# Altium integrated library Texas Instruments Power Management PWM Controller.IntLib: 1227 symbols (part 39 of 49)
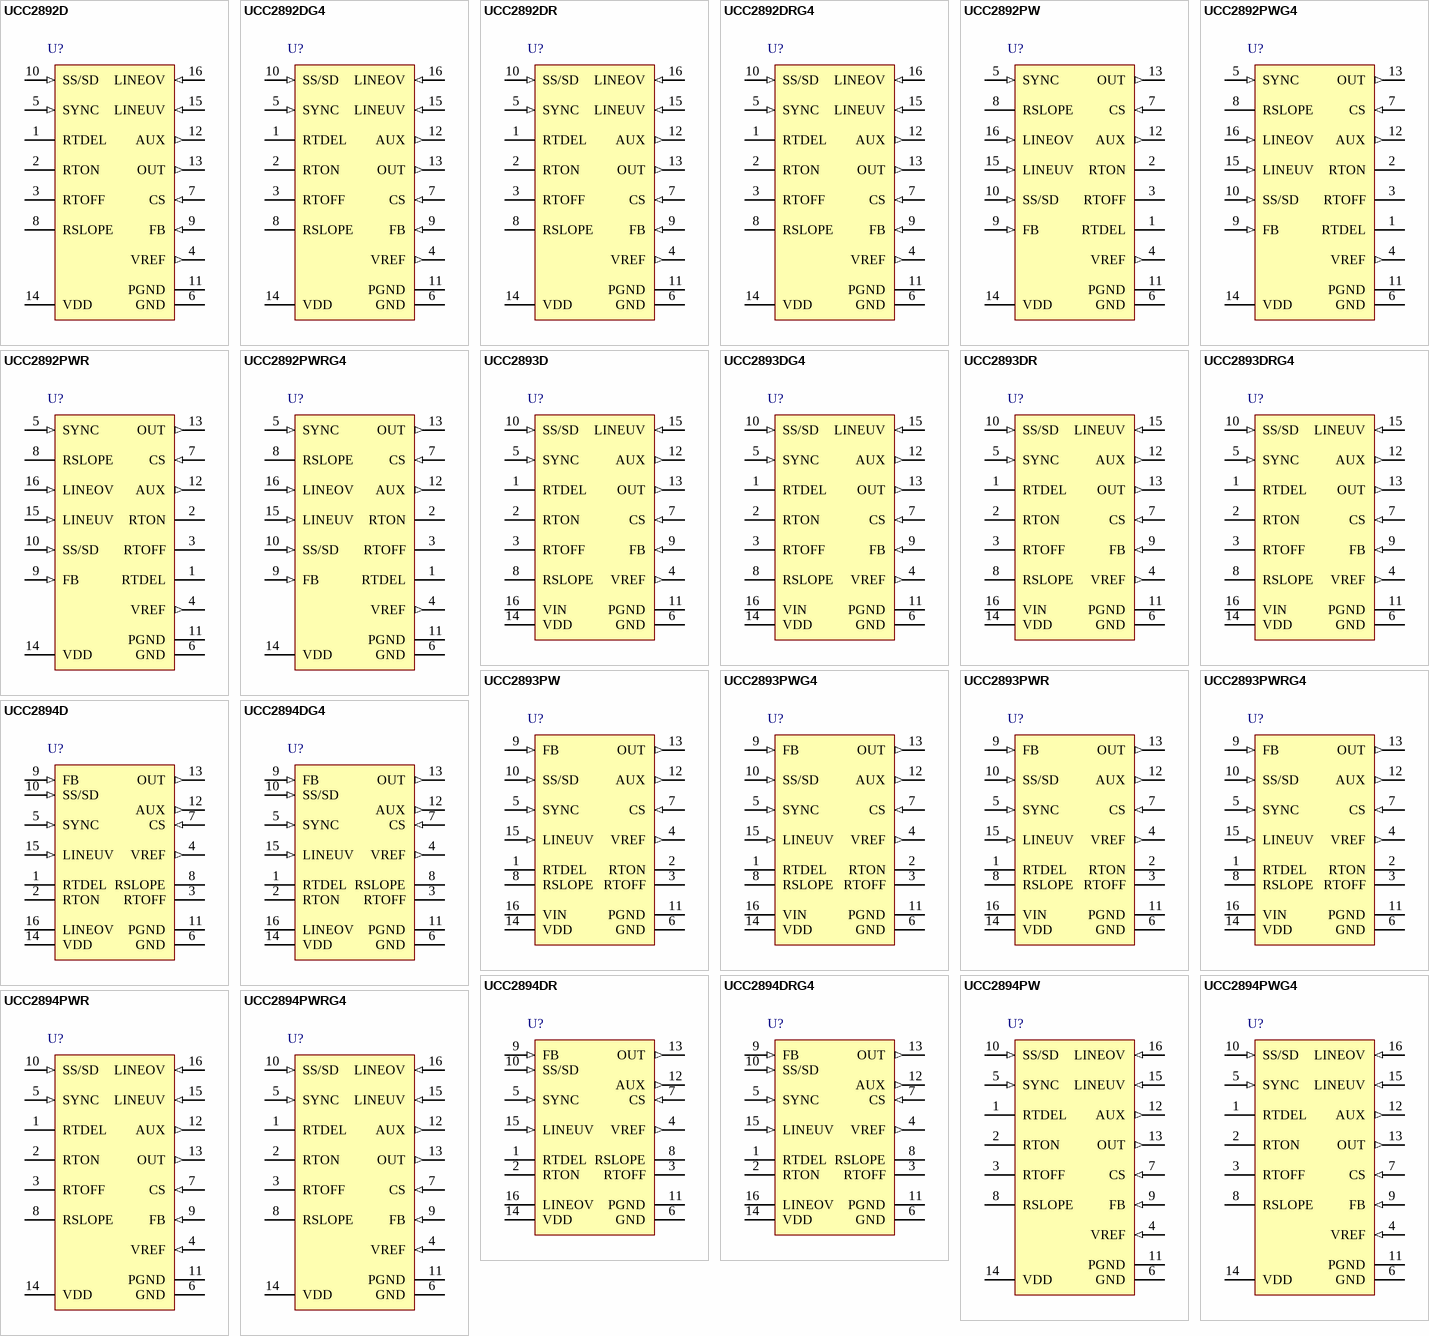
[diagram p81: symbols UCC2892D to UCC2894PWRG4]

## UCC2893PWRG4
designator U?
Active Clamp PWM Controller with Current Control, -40 to +105 degC, 16-pin TSSOP (PW), Green (RoHS & no Sb/Br); PartNumber: UCC2893PWRG4; Manufacturer: Texas Instruments; Frequency(Max)(kHz): 1000; Input Line Monitor: Y; Rating: Catalog; Regulated Outputs(#): 1; Topology: Flyback, Forward; UVLO Thresholds On/Off(V): 13.0/8.0; DatasheetVersion: SLUS542F; PackageVersion: revG, Feb-2011; PackageReference: PW16; PackageDescription: 16-Pin Plastic Thin Small Outline Package 5 x 4.4 mm Body ,0.65 mm Pitch; Supplier 1: Newark; Supplier Part Number 1: 10M0700; Supplier 2: Mouser; Supplier Part Number 2: 595-UCC2893PWRG4; Control Method: Current; Eco-Plan: Green (RoHS & no Sb/Br); SubFamily: PWM Controller; Mounting Technology: Surface Mount; Code_JEDEC: MO-153; ComponentLink1Description: Datasheet; ComponentLink1URL: http://www.ti.com/general/docs/lit/getliterature.tsp?genericPartNumber=UCC2893&fileType=pdf
footprint PW16_N (TSOP, 16-Leads, Body 5x4.4mm, Pitch 0.65mm, IPC Medium Density)
footprint PW16_L (TSOP, 16-Leads, Body 5x4.4mm, Pitch 0.65mm, IPC High Density)
footprint PW16_M (TSOP, 16-Leads, Body 5x4.4mm, Pitch 0.65mm, IPC Low Density)
pins: 1 RTDEL "A resistor from this pin to GND programs the turn-on delay of the two gate drive outputs to accommodate the resonant transitions of the active clamp power converter.", 2 RTON "A resistor connected from this pin to GND programs an internal current source that charges the internal timing capacitor.", 3 RTOFF "A resistor connected from this pin to GND programs an internal current source that discharges the internal timing capacitor.", 4 VREF (out) "This is the 5-V reference voltage that can be utilized for an external load of up to 5 mA. Since this reference provides the supply rail for internal logic, it should be bypassed to AGND as close as possible to the device. (See Datasheet)", 5 SYNC (in) "The SYNC pin serves as a unidirectional synchronization input for the internal oscillator. The synchronization function is implemented such that the user programmable maximum duty cycle (set by RTON and RTOFF) remains (See Datasheet)", 6 GND (power) "This pin serves as the fundamental analog ground for the PWM control circuitry. This pin should be connected to PGND directly at the device.", 7 CS (in) "This pin is used to sense the peak current utilized for current mode control and for current limiting functions. The peak signal which can be applied to this pin before pulse-by-pulse current limiting activates is (See Datasheet)", 8 RSLOPE "A resistor connected from this pin to GND programs an internal current source that sets the slope compensation ramp for the current mode control circuitry.", 9 FB (in) "This pin is used to bring the error signal from an external optocoupler or error amplifier into the PWM control circuitry. Often, there is a resistor tied from FB to VREF, and an optocoupler is used to pull the control pin (See Datasheet)", 10 SS/SD (in) "A capacitor from SS/SD to ground is charged by an internal current source of IRTON to program the soft-start interval for the controller. During a fault condition this capacitor is discharged by a current source equal to (See Datasheet)", 11 PGND (power) "The PGND should serve as the current return for the high-current output drivers OUT and AUX. Ideally, the current path from the outputs to the switching devices, and back would be as short as possible, and enclose a minimal (See Datasheet)", 12 AUX (out) "This output drives the auxiliary clamp MOSFET which is turned on when the main PWM switching device is turned off. The AUX pin can directly drive the auxiliary switch with 2-A source turn-on current and 2-A sink turn-off (See Datasheet)", 13 OUT (out) "This output pin drives the main PWM switching element MOSFET in an active clamp controller. It can directly drive an N-channel device with 2-A source turn-on current and 2-A sink turn-off current. A 10-k ohm resistor is (See Datasheet)", 14 VDD (power) "This is the power supply for the device. There should be a 1-µF capacitor directly from VDD to PGND. The capacitor value should be minimum 10 times greater than that on VREF. PGND and GND should be connected externally and (See Datasheet)", 15 LINEUV (in) "This pin provides a means to accurately enable/disable the power converter stage by monitoring the bulk input voltage or another parameter. When the circuit initially starts (or restarts from a disabled condition), a rising (See Datasheet)", 16 VIN (power) "For the UCC2893, this pin is connected to the input power rail directly. Inside the device, a high-voltage start-up device is utilized to provide the start-up current for the controller until a bootstrap type bias rail (See Datasheet)"

## UCC2894D
designator U?
Active Clamp PWM Controller with Current Control, -40 to +85 degC, 16-pin SOIC (D), Green (RoHS & no Sb/Br); PartNumber: UCC2894D; Manufacturer: Texas Instruments; Frequency(Max)(kHz): 1000; Input Line Monitor: TRUE; Rating: Catalog; Regulated Outputs(#): 1; Topology: Flyback, Forward; UVLO Thresholds On/Off(V): 13.0/8.0; DatasheetVersion: SLUS542F; PackageVersion: revM, Jun-2011; PackageReference: D16; PackageDescription: 16-Pin Plastic Small Outline Integrated Circuit, 9.9 x 3.9 mm, Pitch 1.27 mm Pitch; Supplier 1: Digi-Key; Supplier Part Number 1: 296-15887-5-ND; Supplier 2: Newark; Supplier Part Number 2: 87H4704; Supplier 3: Mouser; Supplier Part Number 3: 595-UCC2894D; Control Method: Current; Eco-Plan: Green (RoHS & no Sb/Br); SubFamily: PWM Controller; Mounting Technology: Surface Mount; Code_JEDEC: MS-012AC; ComponentLink1Description: Datasheet; ComponentLink1URL: http://www.ti.com/general/docs/lit/getliterature.tsp?genericPartNumber=UCC2894&fileType=pdf
footprint D16_N (SOIC, 16-Leads, Body 9.9x3.9mm, Pitch 1.27mm, IPC Medium Density)
footprint D16_L (SOIC, 16-Leads, Body 9.9x3.9mm, Pitch 1.27mm, IPC High Density)
footprint D16_M (SOIC, 16-Leads, Body 9.9x3.9mm, Pitch 1.27mm, IPC Low Density)
pins: 1 RTDEL "A resistor from this pin to GND programs the turn-on delay of the two gate drive outputs to accommodate the resonant transitions of the active clamp power converter.", 2 RTON "A resistor connected from this pin to GND programs an internal current source that charges the internal timing capacitor.", 3 RTOFF "A resistor connected from this pin to GND programs an internal current source that discharges the internal timing capacitor.", 4 VREF (out) "This is the 5-V reference voltage that can be utilized for an external load of up to 5 mA.Since this reference provides the supply rail for internal logic, it should be bypassed to AGND as close as possible to the device. (See Datasheet)", 5 SYNC (in) "The SYNC pin serves as a unidirectional synchronization input for the internal oscillator. The synchronization function is implemented such that the user programmable maximum duty cycle (set by RTON and RTOFF) remains (See Datasheet)", 6 GND (power) "This pin serves as the fundamental analog ground for the PWM control circuitry. This pin should be connected to PGND directly at the device.", 7 CS (in) "This pin is used to sense the peak current utilized for current mode control and for current limiting functions. The peak signal which can be applied to this pin before pulse-by-pulse current limiting activates is (See Datasheet)", 8 RSLOPE "A resistor connected from this pin to GND programs an internal current source that sets the slope compensation ramp for the current mode control circuitry.", 9 FB (in) "This pin is used to bring the error signal from an external optocoupler or error amplifier into the PWM control circuitry. Often, there is a resistor tied from FB to VREF, and an optocoupler is used to pull the control pin (See Datasheet)", 10 SS/SD (in) "A capacitor from SS/SD to ground is charged by an internal current source of IRTON to program the soft-start interval for the controller. During a fault condition this capacitor is discharged by a current source equal to (See Datasheet)", 11 PGND (power) "The PGND should serve as the current return for the high-current output drivers OUT and AUX. Ideally, the current path from the outputs to the switching devices, and back would be as short as possible, and enclose a minimal (See Datasheet)", 12 AUX (out) "This output drives the auxiliary clamp MOSFET which is turned on when the main PWM switching device is turned off. The AUX pin can directly drive the auxiliary switch with 2-A source turn-on current and 2-A sink turn-off (See Datasheet)", 13 OUT (out) "This output pin drives the main PWM switching element MOSFET in an active clamp controller.It can directly drive an N-channel device with 2-A source turn-on current and 2-A sink turn-off current. A 10-k ohm resistor is (See Datasheet)", 14 VDD (power) "This is the power supply for the device. There should be a 1-uF capacitor directly from VDD to PGND. The capacitor value should be minimum 10 times greater than that on VREF.PGND and GND should be connected externally and (See Datasheet)", 15 LINEUV (in) "This pin provides a means to accurately enable/disable the power converter stage by monitoring the bulk input voltage or another parameter. When the circuit initially starts (or restarts from a disabled condition), a rising (See Datasheet)", 16 LINEOV (power) "For the UCC2892/4, provides the LINE overvoltage function."

## UCC2894DG4
designator U?
Active Clamp PWM Controller with Current Control, -40 to +85 degC, 16-pin SOIC (D), Green (RoHS & no Sb/Br); PartNumber: UCC2894DG4; Manufacturer: Texas Instruments; Frequency(Max)(kHz): 1000; Input Line Monitor: TRUE; Rating: Catalog; Regulated Outputs(#): 1; Topology: Flyback, Forward; UVLO Thresholds On/Off(V): 13.0/8.0; DatasheetVersion: SLUS542F; PackageVersion: revM, Jun-2011; PackageReference: D16; PackageDescription: 16-Pin Plastic Small Outline Integrated Circuit, 9.9 x 3.9 mm, Pitch 1.27 mm Pitch; Supplier 1: Digi-Key; Supplier Part Number 1: UCC2894DG4-ND; Supplier 2: Newark; Supplier Part Number 2: 81K4486; Supplier 3: Mouser; Supplier Part Number 3: 595-UCC2894DG4; Control Method: Current; Eco-Plan: Green (RoHS & no Sb/Br); SubFamily: PWM Controller; Mounting Technology: Surface Mount; Code_JEDEC: MS-012AC; ComponentLink1Description: Datasheet; ComponentLink1URL: http://www.ti.com/general/docs/lit/getliterature.tsp?genericPartNumber=UCC2894&fileType=pdf
footprint D16_N (SOIC, 16-Leads, Body 9.9x3.9mm, Pitch 1.27mm, IPC Medium Density)
footprint D16_L (SOIC, 16-Leads, Body 9.9x3.9mm, Pitch 1.27mm, IPC High Density)
footprint D16_M (SOIC, 16-Leads, Body 9.9x3.9mm, Pitch 1.27mm, IPC Low Density)
pins: 1 RTDEL "A resistor from this pin to GND programs the turn-on delay of the two gate drive outputs to accommodate the resonant transitions of the active clamp power converter.", 2 RTON "A resistor connected from this pin to GND programs an internal current source that charges the internal timing capacitor.", 3 RTOFF "A resistor connected from this pin to GND programs an internal current source that discharges the internal timing capacitor.", 4 VREF (out) "This is the 5-V reference voltage that can be utilized for an external load of up to 5 mA.Since this reference provides the supply rail for internal logic, it should be bypassed to AGND as close as possible to the device. (See Datasheet)", 5 SYNC (in) "The SYNC pin serves as a unidirectional synchronization input for the internal oscillator. The synchronization function is implemented such that the user programmable maximum duty cycle (set by RTON and RTOFF) remains (See Datasheet)", 6 GND (power) "This pin serves as the fundamental analog ground for the PWM control circuitry. This pin should be connected to PGND directly at the device.", 7 CS (in) "This pin is used to sense the peak current utilized for current mode control and for current limiting functions. The peak signal which can be applied to this pin before pulse-by-pulse current limiting activates is (See Datasheet)", 8 RSLOPE "A resistor connected from this pin to GND programs an internal current source that sets the slope compensation ramp for the current mode control circuitry.", 9 FB (in) "This pin is used to bring the error signal from an external optocoupler or error amplifier into the PWM control circuitry. Often, there is a resistor tied from FB to VREF, and an optocoupler is used to pull the control pin (See Datasheet)", 10 SS/SD (in) "A capacitor from SS/SD to ground is charged by an internal current source of IRTON to program the soft-start interval for the controller. During a fault condition this capacitor is discharged by a current source equal to (See Datasheet)", 11 PGND (power) "The PGND should serve as the current return for the high-current output drivers OUT and AUX. Ideally, the current path from the outputs to the switching devices, and back would be as short as possible, and enclose a minimal (See Datasheet)", 12 AUX (out) "This output drives the auxiliary clamp MOSFET which is turned on when the main PWM switching device is turned off. The AUX pin can directly drive the auxiliary switch with 2-A source turn-on current and 2-A sink turn-off (See Datasheet)", 13 OUT (out) "This output pin drives the main PWM switching element MOSFET in an active clamp controller.It can directly drive an N-channel device with 2-A source turn-on current and 2-A sink turn-off current. A 10-k ohm resistor is (See Datasheet)", 14 VDD (power) "This is the power supply for the device. There should be a 1-uF capacitor directly from VDD to PGND. The capacitor value should be minimum 10 times greater than that on VREF.PGND and GND should be connected externally and (See Datasheet)", 15 LINEUV (in) "This pin provides a means to accurately enable/disable the power converter stage by monitoring the bulk input voltage or another parameter. When the circuit initially starts (or restarts from a disabled condition), a rising (See Datasheet)", 16 LINEOV (power) "For the UCC2892/4, provides the LINE overvoltage function."

## UCC2894DR
designator U?
Current-Mode Active Clamp PWM Controller with Current Control, -40 to +85 degC, 16-pin SOIC (D), Green (RoHS & no Sb/Br); PartNumber: UCC2894DR; Manufacturer: Texas Instruments; Frequency(Max)(kHz): 1000; Input Line Monitor: TRUE; Rating: Catalog; Regulated Outputs(#): 1; Topology: Flyback, Forward; UVLO Thresholds On/Off(V): 13.0/8.0; DatasheetVersion: SLUS542F; PackageVersion: revM, Jun-2011; PackageReference: D16; PackageDescription: 16-Pin Plastic Small Outline Integrated Circuit, 9.9 x 3.9 mm, Pitch 1.27 mm Pitch; Supplier 1: Digi-Key; Supplier Part Number 1: UCC2894DR-ND; Supplier 2: Newark; Supplier Part Number 2: 87H4705; Supplier 3: Mouser; Supplier Part Number 3: 595-UCC2894DR; Control Method: Current; Eco-Plan: Green (RoHS & no Sb/Br); SubFamily: PWM Controller; Mounting Technology: Surface Mount; Code_JEDEC: MS-012AC; ComponentLink1Description: Datasheet; ComponentLink1URL: http://www.ti.com/general/docs/lit/getliterature.tsp?genericPartNumber=UCC2894&fileType=pdf
footprint D16_N (SOIC, 16-Leads, Body 9.9x3.9mm, Pitch 1.27mm, IPC Medium Density)
footprint D16_L (SOIC, 16-Leads, Body 9.9x3.9mm, Pitch 1.27mm, IPC High Density)
footprint D16_M (SOIC, 16-Leads, Body 9.9x3.9mm, Pitch 1.27mm, IPC Low Density)
pins: 1 RTDEL "A resistor from this pin to GND programs the turn-on delay of the two gate drive outputs to accommodate the resonant transitions of the active clamp power converter.", 2 RTON "A resistor connected from this pin to GND programs an internal current source that charges the internal timing capacitor.", 3 RTOFF "A resistor connected from this pin to GND programs an internal current source that discharges the internal timing capacitor.", 4 VREF (out) "This is the 5-V reference voltage that can be utilized for an external load of up to 5 mA.Since this reference provides the supply rail for internal logic, it should be bypassed to AGND as close as possible to the device. (See Datasheet)", 5 SYNC (in) "The SYNC pin serves as a unidirectional synchronization input for the internal oscillator. The synchronization function is implemented such that the user programmable maximum duty cycle (set by RTON and RTOFF) remains (See Datasheet)", 6 GND (power) "This pin serves as the fundamental analog ground for the PWM control circuitry. This pin should be connected to PGND directly at the device.", 7 CS (in) "This pin is used to sense the peak current utilized for current mode control and for current limiting functions. The peak signal which can be applied to this pin before pulse-by-pulse current limiting activates is (See Datasheet)", 8 RSLOPE "A resistor connected from this pin to GND programs an internal current source that sets the slope compensation ramp for the current mode control circuitry.", 9 FB (in) "This pin is used to bring the error signal from an external optocoupler or error amplifier into the PWM control circuitry. Often, there is a resistor tied from FB to VREF, and an optocoupler is used to pull the control pin (See Datasheet)", 10 SS/SD (in) "A capacitor from SS/SD to ground is charged by an internal current source of IRTON to program the soft-start interval for the controller. During a fault condition this capacitor is discharged by a current source equal to (See Datasheet)", 11 PGND (power) "The PGND should serve as the current return for the high-current output drivers OUT and AUX. Ideally, the current path from the outputs to the switching devices, and back would be as short as possible, and enclose a minimal (See Datasheet)", 12 AUX (out) "This output drives the auxiliary clamp MOSFET which is turned on when the main PWM switching device is turned off. The AUX pin can directly drive the auxiliary switch with 2-A source turn-on current and 2-A sink turn-off (See Datasheet)", 13 OUT (out) "This output pin drives the main PWM switching element MOSFET in an active clamp controller.It can directly drive an N-channel device with 2-A source turn-on current and 2-A sink turn-off current. A 10-k ohm resistor is (See Datasheet)", 14 VDD (power) "This is the power supply for the device. There should be a 1-uF capacitor directly from VDD to PGND. The capacitor value should be minimum 10 times greater than that on VREF.PGND and GND should be connected externally and (See Datasheet)", 15 LINEUV (in) "This pin provides a means to accurately enable/disable the power converter stage by monitoring the bulk input voltage or another parameter. When the circuit initially starts (or restarts from a disabled condition), a rising (See Datasheet)", 16 LINEOV (power) "For the UCC2892/4, provides the LINE overvoltage function."

## UCC2894DRG4
designator U?
Current-Mode Active Clamp PWM Controller with Current Control, -40 to +85 degC, 16-pin SOIC (D), Green (RoHS & no Sb/Br); PartNumber: UCC2894DRG4; Manufacturer: Texas Instruments; Frequency(Max)(kHz): 1000; Input Line Monitor: TRUE; Rating: Catalog; Regulated Outputs(#): 1; Topology: Flyback, Forward; UVLO Thresholds On/Off(V): 13.0/8.0; DatasheetVersion: SLUS542F; PackageVersion: revM, Jun-2011; PackageReference: D16; PackageDescription: 16-Pin Plastic Small Outline Integrated Circuit, 9.9 x 3.9 mm, Pitch 1.27 mm Pitch; Supplier 1: Digi-Key; Supplier Part Number 1: UCC2894DRG4-ND; Supplier 2: Newark; Supplier Part Number 2: 67K8782; Supplier 3: Mouser; Supplier Part Number 3: 595-UCC2894DRG4; Control Method: Current; Eco-Plan: Green (RoHS & no Sb/Br); SubFamily: PWM Controller; Mounting Technology: Surface Mount; Code_JEDEC: MS-012AC; ComponentLink1Description: Datasheet; ComponentLink1URL: http://www.ti.com/general/docs/lit/getliterature.tsp?genericPartNumber=UCC2894&fileType=pdf
footprint D16_N (SOIC, 16-Leads, Body 9.9x3.9mm, Pitch 1.27mm, IPC Medium Density)
footprint D16_L (SOIC, 16-Leads, Body 9.9x3.9mm, Pitch 1.27mm, IPC High Density)
footprint D16_M (SOIC, 16-Leads, Body 9.9x3.9mm, Pitch 1.27mm, IPC Low Density)
pins: 1 RTDEL "A resistor from this pin to GND programs the turn-on delay of the two gate drive outputs to accommodate the resonant transitions of the active clamp power converter.", 2 RTON "A resistor connected from this pin to GND programs an internal current source that charges the internal timing capacitor.", 3 RTOFF "A resistor connected from this pin to GND programs an internal current source that discharges the internal timing capacitor.", 4 VREF (out) "This is the 5-V reference voltage that can be utilized for an external load of up to 5 mA.Since this reference provides the supply rail for internal logic, it should be bypassed to AGND as close as possible to the device. (See Datasheet)", 5 SYNC (in) "The SYNC pin serves as a unidirectional synchronization input for the internal oscillator. The synchronization function is implemented such that the user programmable maximum duty cycle (set by RTON and RTOFF) remains (See Datasheet)", 6 GND (power) "This pin serves as the fundamental analog ground for the PWM control circuitry. This pin should be connected to PGND directly at the device.", 7 CS (in) "This pin is used to sense the peak current utilized for current mode control and for current limiting functions. The peak signal which can be applied to this pin before pulse-by-pulse current limiting activates is (See Datasheet)", 8 RSLOPE "A resistor connected from this pin to GND programs an internal current source that sets the slope compensation ramp for the current mode control circuitry.", 9 FB (in) "This pin is used to bring the error signal from an external optocoupler or error amplifier into the PWM control circuitry. Often, there is a resistor tied from FB to VREF, and an optocoupler is used to pull the control pin (See Datasheet)", 10 SS/SD (in) "A capacitor from SS/SD to ground is charged by an internal current source of IRTON to program the soft-start interval for the controller. During a fault condition this capacitor is discharged by a current source equal to (See Datasheet)", 11 PGND (power) "The PGND should serve as the current return for the high-current output drivers OUT and AUX. Ideally, the current path from the outputs to the switching devices, and back would be as short as possible, and enclose a minimal (See Datasheet)", 12 AUX (out) "This output drives the auxiliary clamp MOSFET which is turned on when the main PWM switching device is turned off. The AUX pin can directly drive the auxiliary switch with 2-A source turn-on current and 2-A sink turn-off (See Datasheet)", 13 OUT (out) "This output pin drives the main PWM switching element MOSFET in an active clamp controller.It can directly drive an N-channel device with 2-A source turn-on current and 2-A sink turn-off current. A 10-k ohm resistor is (See Datasheet)", 14 VDD (power) "This is the power supply for the device. There should be a 1-uF capacitor directly from VDD to PGND. The capacitor value should be minimum 10 times greater than that on VREF.PGND and GND should be connected externally and (See Datasheet)", 15 LINEUV (in) "This pin provides a means to accurately enable/disable the power converter stage by monitoring the bulk input voltage or another parameter. When the circuit initially starts (or restarts from a disabled condition), a rising (See Datasheet)", 16 LINEOV (power) "For the UCC2892/4, provides the LINE overvoltage function."

## UCC2894PW
designator U?
Current-Mode Active Clamp PWM Controller with Current Control, -40 to +85 degC, 16-pin TSSOP (PW), Green (RoHS & no Sb/Br); PartNumber: UCC2894PW; Manufacturer: Texas Instruments; Frequency(Max)(kHz): 1000; Input Line Monitor: TRUE; Rating: Catalog; Regulated Outputs(#): 1; Topology: Flyback, Forward; UVLO Thresholds On/Off(V): 13.0/8.0; DatasheetVersion: SLUS542F; PackageVersion: revG, Feb-2011; PackageReference: PW16; PackageDescription: 16-Pin Plastic Thin Small Outline Package 5 x 4.4 mm Body ,0.65 mm Pitch; Supplier 1: Newark; Supplier Part Number 1: 87H4706; Supplier 2: Mouser; Supplier Part Number 2: 595-UCC2894PW; Control Method: Current; Eco-Plan: Green (RoHS & no Sb/Br); SubFamily: PWM Controller; Mounting Technology: Surface Mount; Code_JEDEC: MO-153; ComponentLink1Description: Datasheet; ComponentLink1URL: http://www.ti.com/general/docs/lit/getliterature.tsp?genericPartNumber=UCC2894&fileType=pdf
footprint PW16_N (TSOP, 16-Leads, Body 5x4.4mm, Pitch 0.65mm, IPC Medium Density)
footprint PW16_L (TSOP, 16-Leads, Body 5x4.4mm, Pitch 0.65mm, IPC High Density)
footprint PW16_M (TSOP, 16-Leads, Body 5x4.4mm, Pitch 0.65mm, IPC Low Density)
pins: 1 RTDEL "A resistor from this pin to GND programs the turn-on delay of the two gate drive outputs to accommodate the resonant transitions of the active clamp power converter.", 2 RTON "A resistor connected from this pin to GND programs an internal current source that charges the internal timing capacitor.", 3 RTOFF "A resistor connected from this pin to GND programs an internal current source that discharges the internal timing capacitor.", 4 VREF (in) "This is the 5-V reference voltage that can be utilized for an external load of up to 5 mA. Since this reference provides the supply rail for internal logic, it should be bypassed to AGND as close as possible to the device. (See Datasheet)", 5 SYNC (in) "The SYNC pin serves as a unidirectional synchronization input for the internal oscillator. The synchronization function is implemented such that the user programmable maximum duty cycle (set by RTON and RTOFF) remains (See Datasheet)", 6 GND (power) "This pin serves as the fundamental analog ground for the PWM control circuitry. This pin should be connected to PGND directly at the device.", 7 CS (in) "This pin is used to sense the peak current utilized for current mode control and for current limiting functions. The peak signal which can be applied to this pin before pulse-by-pulse current limiting activates is (See Datasheet)", 8 RSLOPE "A resistor connected from this pin to GND programs an internal current source that sets the slope compensation ramp for the current mode control circuitry.", 9 FB (in) "This pin is used to bring the error signal from an external optocoupler or error amplifier into the PWM control circuitry. Often, there is a resistor tied from FB to VREF, and an optocoupler is used to pull the control pin (See Datasheet)", 10 SS/SD (in) "A capacitor from SS/SD to ground is charged by an internal current source of IRTON to program the soft-start interval for the controller. During a fault condition this capacitor is discharged by a current source equal to (See Datasheet)", 11 PGND (power) "The PGND should serve as the current return for the high-current output drivers OUT and AUX. Ideally, the current path from the outputs to the switching devices, and back would be as short as possible, and enclose a minimal (See Datasheet)", 12 AUX (out) "This output drives the auxiliary clamp MOSFET which is turned on when the main PWM switching device is turned off. The AUX pin can directly drive the auxiliary switch with 2-A source turn-on current and 2-A sink turn-off (See Datasheet)", 13 OUT (out) "This output pin drives the main PWM switching element MOSFET in an active clamp controller. It can directly drive an N-channel device with 2-A source turn-on current and 2-A sink turn-off current. A 10-k ohm resistor is (See Datasheet)", 14 VDD (power) "This is the power supply for the device. There should be a 1-uF capacitor directly from VDD to PGND. The capacitor value should be minimum 10 times greater than that on VREF. PGND and GND should be connected externally and (See Datasheet)", 15 LINEUV (in) "This pin provides a means to accurately enable/disable the power converter stage by monitoring the bulk input voltage or another parameter. When the circuit initially starts (or restarts from a disabled condition), a rising (See Datasheet)", 16 LINEOV (in) "For the UCC2894, provides the LINE overvoltage function."

## UCC2894PWG4
designator U?
Current-Mode Active Clamp PWM Controller with Current Control, -40 to +85 degC, 16-pin TSSOP (PW), Green (RoHS & no Sb/Br); PartNumber: UCC2894PWG4; Manufacturer: Texas Instruments; Frequency(Max)(kHz): 1000; Input Line Monitor: TRUE; Rating: Catalog; Regulated Outputs(#): 1; Topology: Flyback, Forward; UVLO Thresholds On/Off(V): 13.0/8.0; DatasheetVersion: SLUS542F; PackageVersion: revG, Feb-2011; PackageReference: PW16; PackageDescription: 16-Pin Plastic Thin Small Outline Package 5 x 4.4 mm Body ,0.65 mm Pitch; Supplier 1: Newark; Supplier Part Number 1: 54K2057; Supplier 2: Mouser; Supplier Part Number 2: 595-UCC2894PWG4; Control Method: Current; Eco-Plan: Green (RoHS & no Sb/Br); SubFamily: PWM Controller; Mounting Technology: Surface Mount; Code_JEDEC: MO-153; ComponentLink1Description: Datasheet; ComponentLink1URL: http://www.ti.com/general/docs/lit/getliterature.tsp?genericPartNumber=UCC2894&fileType=pdf
footprint PW16_N (TSOP, 16-Leads, Body 5x4.4mm, Pitch 0.65mm, IPC Medium Density)
footprint PW16_L (TSOP, 16-Leads, Body 5x4.4mm, Pitch 0.65mm, IPC High Density)
footprint PW16_M (TSOP, 16-Leads, Body 5x4.4mm, Pitch 0.65mm, IPC Low Density)
pins: 1 RTDEL "A resistor from this pin to GND programs the turn-on delay of the two gate drive outputs to accommodate the resonant transitions of the active clamp power converter.", 2 RTON "A resistor connected from this pin to GND programs an internal current source that charges the internal timing capacitor.", 3 RTOFF "A resistor connected from this pin to GND programs an internal current source that discharges the internal timing capacitor.", 4 VREF (in) "This is the 5-V reference voltage that can be utilized for an external load of up to 5 mA. Since this reference provides the supply rail for internal logic, it should be bypassed to AGND as close as possible to the device. (See Datasheet)", 5 SYNC (in) "The SYNC pin serves as a unidirectional synchronization input for the internal oscillator. The synchronization function is implemented such that the user programmable maximum duty cycle (set by RTON and RTOFF) remains (See Datasheet)", 6 GND (power) "This pin serves as the fundamental analog ground for the PWM control circuitry. This pin should be connected to PGND directly at the device.", 7 CS (in) "This pin is used to sense the peak current utilized for current mode control and for current limiting functions. The peak signal which can be applied to this pin before pulse-by-pulse current limiting activates is (See Datasheet)", 8 RSLOPE "A resistor connected from this pin to GND programs an internal current source that sets the slope compensation ramp for the current mode control circuitry.", 9 FB (in) "This pin is used to bring the error signal from an external optocoupler or error amplifier into the PWM control circuitry. Often, there is a resistor tied from FB to VREF, and an optocoupler is used to pull the control pin (See Datasheet)", 10 SS/SD (in) "A capacitor from SS/SD to ground is charged by an internal current source of IRTON to program the soft-start interval for the controller. During a fault condition this capacitor is discharged by a current source equal to (See Datasheet)", 11 PGND (power) "The PGND should serve as the current return for the high-current output drivers OUT and AUX. Ideally, the current path from the outputs to the switching devices, and back would be as short as possible, and enclose a minimal (See Datasheet)", 12 AUX (out) "This output drives the auxiliary clamp MOSFET which is turned on when the main PWM switching device is turned off. The AUX pin can directly drive the auxiliary switch with 2-A source turn-on current and 2-A sink turn-off (See Datasheet)", 13 OUT (out) "This output pin drives the main PWM switching element MOSFET in an active clamp controller. It can directly drive an N-channel device with 2-A source turn-on current and 2-A sink turn-off current. A 10-k ohm resistor is (See Datasheet)", 14 VDD (power) "This is the power supply for the device. There should be a 1-uF capacitor directly from VDD to PGND. The capacitor value should be minimum 10 times greater than that on VREF. PGND and GND should be connected externally and (See Datasheet)", 15 LINEUV (in) "This pin provides a means to accurately enable/disable the power converter stage by monitoring the bulk input voltage or another parameter. When the circuit initially starts (or restarts from a disabled condition), a rising (See Datasheet)", 16 LINEOV (in) "For the UCC2894, provides the LINE overvoltage function."

## UCC2894PWR
designator U?
Current-Mode Active Clamp PWM Controller with Current Control, -40 to +85 degC, 16-pin TSSOP (PW), Green (RoHS & no Sb/Br); PartNumber: UCC2894PWR; Manufacturer: Texas Instruments; Frequency(Max)(kHz): 1000; Input Line Monitor: TRUE; Rating: Catalog; Regulated Outputs(#): 1; Topology: Flyback, Forward; UVLO Thresholds On/Off(V): 13.0/8.0; DatasheetVersion: SLUS542F; PackageVersion: revG, Feb-2011; PackageReference: PW16; PackageDescription: 16-Pin Plastic Thin Small Outline Package 5 x 4.4 mm Body ,0.65 mm Pitch; Supplier 1: Newark; Supplier Part Number 1: 87H4707; Supplier 2: Mouser; Supplier Part Number 2: 595-UCC2894PWR; Control Method: Current; Eco-Plan: Green (RoHS & no Sb/Br); SubFamily: PWM Controller; Mounting Technology: Surface Mount; Code_JEDEC: MO-153; ComponentLink1Description: Datasheet; ComponentLink1URL: http://www.ti.com/general/docs/lit/getliterature.tsp?genericPartNumber=UCC2894&fileType=pdf
footprint PW16_N (TSOP, 16-Leads, Body 5x4.4mm, Pitch 0.65mm, IPC Medium Density)
footprint PW16_L (TSOP, 16-Leads, Body 5x4.4mm, Pitch 0.65mm, IPC High Density)
footprint PW16_M (TSOP, 16-Leads, Body 5x4.4mm, Pitch 0.65mm, IPC Low Density)
pins: 1 RTDEL "A resistor from this pin to GND programs the turn-on delay of the two gate drive outputs to accommodate the resonant transitions of the active clamp power converter.", 2 RTON "A resistor connected from this pin to GND programs an internal current source that charges the internal timing capacitor.", 3 RTOFF "A resistor connected from this pin to GND programs an internal current source that discharges the internal timing capacitor.", 4 VREF (in) "This is the 5-V reference voltage that can be utilized for an external load of up to 5 mA. Since this reference provides the supply rail for internal logic, it should be bypassed to AGND as close as possible to the device. (See Datasheet)", 5 SYNC (in) "The SYNC pin serves as a unidirectional synchronization input for the internal oscillator. The synchronization function is implemented such that the user programmable maximum duty cycle (set by RTON and RTOFF) remains (See Datasheet)", 6 GND (power) "This pin serves as the fundamental analog ground for the PWM control circuitry. This pin should be connected to PGND directly at the device.", 7 CS (in) "This pin is used to sense the peak current utilized for current mode control and for current limiting functions. The peak signal which can be applied to this pin before pulse-by-pulse current limiting activates is (See Datasheet)", 8 RSLOPE "A resistor connected from this pin to GND programs an internal current source that sets the slope compensation ramp for the current mode control circuitry.", 9 FB (in) "This pin is used to bring the error signal from an external optocoupler or error amplifier into the PWM control circuitry. Often, there is a resistor tied from FB to VREF, and an optocoupler is used to pull the control pin (See Datasheet)", 10 SS/SD (in) "A capacitor from SS/SD to ground is charged by an internal current source of IRTON to program the soft-start interval for the controller. During a fault condition this capacitor is discharged by a current source equal to (See Datasheet)", 11 PGND (power) "The PGND should serve as the current return for the high-current output drivers OUT and AUX. Ideally, the current path from the outputs to the switching devices, and back would be as short as possible, and enclose a minimal (See Datasheet)", 12 AUX (out) "This output drives the auxiliary clamp MOSFET which is turned on when the main PWM switching device is turned off. The AUX pin can directly drive the auxiliary switch with 2-A source turn-on current and 2-A sink turn-off (See Datasheet)", 13 OUT (out) "This output pin drives the main PWM switching element MOSFET in an active clamp controller. It can directly drive an N-channel device with 2-A source turn-on current and 2-A sink turn-off current. A 10-k ohm resistor is (See Datasheet)", 14 VDD (power) "This is the power supply for the device. There should be a 1-uF capacitor directly from VDD to PGND. The capacitor value should be minimum 10 times greater than that on VREF. PGND and GND should be connected externally and (See Datasheet)", 15 LINEUV (in) "This pin provides a means to accurately enable/disable the power converter stage by monitoring the bulk input voltage or another parameter. When the circuit initially starts (or restarts from a disabled condition), a rising (See Datasheet)", 16 LINEOV (in) "For the UCC2894, provides the LINE overvoltage function."

## UCC2894PWRG4
designator U?
Active Clamp PWM Controller with Current Control, -40 to +85 degC, 16-pin TSSOP (PW), Green (RoHS & no Sb/Br); PartNumber: UCC2894PWRG4; Manufacturer: Texas Instruments; Frequency(Max)(kHz): 1000; Input Line Monitor: Y; Rating: Catalog; Regulated Outputs(#): 1; Topology: Flyback, Forward; UVLO Thresholds On/Off(V): 13.0/8.0; DatasheetVersion: SLUS542F; PackageVersion: revG, Feb-2011; PackageReference: PW16; PackageDescription: 16-Pin Plastic Thin Small Outline Package 5 x 4.4 mm Body ,0.65 mm Pitch; Supplier 1: Newark; Supplier Part Number 1: 54K2058; Supplier 2: Mouser; Supplier Part Number 2: 595-UCC2894PWRG4; Control Method: Current; Eco-Plan: Green (RoHS & no Sb/Br); SubFamily: PWM Controller; Mounting Technology: Surface Mount; Code_JEDEC: MO-153; ComponentLink1Description: Datasheet; ComponentLink1URL: http://www.ti.com/general/docs/lit/getliterature.tsp?genericPartNumber=UCC2894&fileType=pdf
footprint PW16_N (TSOP, 16-Leads, Body 5x4.4mm, Pitch 0.65mm, IPC Medium Density)
footprint PW16_L (TSOP, 16-Leads, Body 5x4.4mm, Pitch 0.65mm, IPC High Density)
footprint PW16_M (TSOP, 16-Leads, Body 5x4.4mm, Pitch 0.65mm, IPC Low Density)
pins: 1 RTDEL "A resistor from this pin to GND programs the turn-on delay of the two gate drive outputs to accommodate the resonant transitions of the active clamp power converter.", 2 RTON "A resistor connected from this pin to GND programs an internal current source that charges the internal timing capacitor.", 3 RTOFF "A resistor connected from this pin to GND programs an internal current source that discharges the internal timing capacitor.", 4 VREF (in) "This is the 5-V reference voltage that can be utilized for an external load of up to 5 mA. Since this reference provides the supply rail for internal logic, it should be bypassed to AGND as close as possible to the device. (See Datasheet)", 5 SYNC (in) "The SYNC pin serves as a unidirectional synchronization input for the internal oscillator. The synchronization function is implemented such that the user programmable maximum duty cycle (set by RTON and RTOFF) remains (See Datasheet)", 6 GND (power) "This pin serves as the fundamental analog ground for the PWM control circuitry. This pin should be connected to PGND directly at the device.", 7 CS (in) "This pin is used to sense the peak current utilized for current mode control and for current limiting functions. The peak signal which can be applied to this pin before pulse-by-pulse current limiting activates is (See Datasheet)", 8 RSLOPE "A resistor connected from this pin to GND programs an internal current source that sets the slope compensation ramp for the current mode control circuitry.", 9 FB (in) "This pin is used to bring the error signal from an external optocoupler or error amplifier into the PWM control circuitry. Often, there is a resistor tied from FB to VREF, and an optocoupler is used to pull the control pin (See Datasheet)", 10 SS/SD (in) "A capacitor from SS/SD to ground is charged by an internal current source of IRTON to program the soft-start interval for the controller. During a fault condition this capacitor is discharged by a current source equal to (See Datasheet)", 11 PGND (power) "The PGND should serve as the current return for the high-current output drivers OUT and AUX. Ideally, the current path from the outputs to the switching devices, and back would be as short as possible, and enclose a minimal (See Datasheet)", 12 AUX (out) "This output drives the auxiliary clamp MOSFET which is turned on when the main PWM switching device is turned off. The AUX pin can directly drive the auxiliary switch with 2-A source turn-on current and 2-A sink turn-off (See Datasheet)", 13 OUT (out) "This output pin drives the main PWM switching element MOSFET in an active clamp controller. It can directly drive an N-channel device with 2-A source turn-on current and 2-A sink turn-off current. A 10-k ohm resistor is (See Datasheet)", 14 VDD (power) "This is the power supply for the device. There should be a 1-uF capacitor directly from VDD to PGND. The capacitor value should be minimum 10 times greater than that on VREF. PGND and GND should be connected externally and (See Datasheet)", 15 LINEUV (in) "This pin provides a means to accurately enable/disable the power converter stage by monitoring the bulk input voltage or another parameter. When the circuit initially starts (or restarts from a disabled condition), a rising (See Datasheet)", 16 LINEOV (in) "For the UCC2894, provides the LINE overvoltage function."

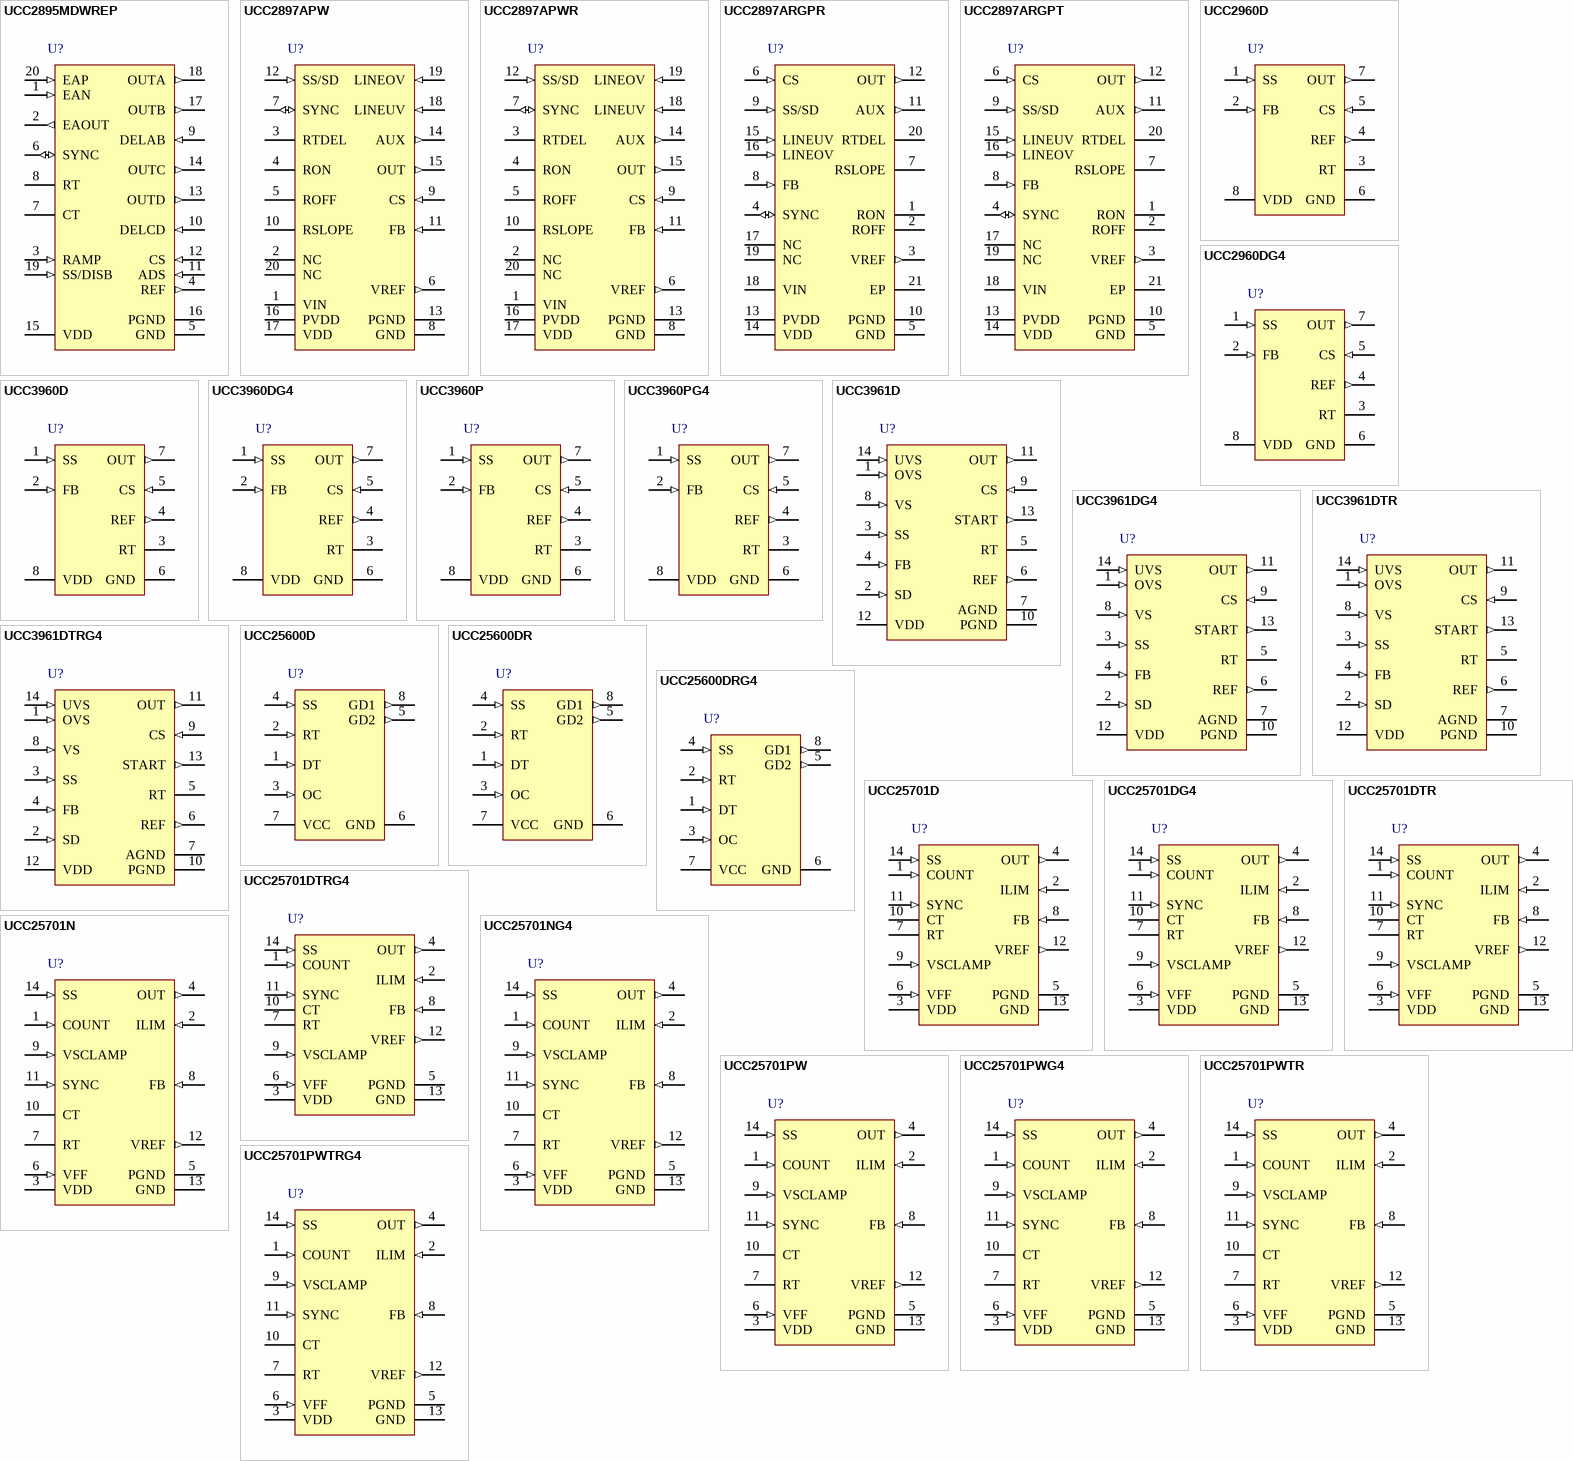
[diagram p39: symbols UCC2895MDWREP to UCC25701PWTRG4]

## UCC2895MDWREP
designator U?
BiCMOS Advanced Phase Shift PWM Controller with Current Control, 100 % Duty Cycle, -55 to +125 degC, 20-pin SOIC (DW), Green (RoHS & no Sb/Br); PartNumber: UCC2895MDWREP; Manufacturer: Texas Instruments; Duty Cycle(Max)(%): 100; Frequency(Max)(kHz): 527; Rating: HiRel Enhanced Product; UVLO Thresholds On/Off(V): 11.8/9.8; DatasheetVersion: SCBS809F; PackageVersion: revG, Jan-2011; PackageReference: DW20; PackageDescription: 20-Pin Plastic Small Outline Integrated Circuit, 12.8 x 7.5 mm, Pitch 1.27 mm Pitch; Supplier 1: Arrow; Supplier Part Number 1: 42472712S7963074N2415; Supplier 2: Digi-Key; Supplier Part Number 2: 296-19800-2-ND; Supplier 3: Digi-Key; Supplier Part Number 3: 296-19800-1-ND; Supplier 4: Digi-Key; Supplier Part Number 4: 296-19800-6-ND; Supplier 5: Newark; Supplier Part Number 5: 46M1386; Supplier 6: Mouser; Supplier Part Number 6: 595-UCC2895MDWREP; Control Method: Current; Eco-Plan: Green (RoHS & no Sb/Br); SubFamily: PWM Controller; Mounting Technology: Surface Mount; Code_JEDEC: MS-013-AC; ComponentLink1Description: Datasheet; ComponentLink1URL: http://www.ti.com/general/docs/lit/getliterature.tsp?genericPartNumber=UCC2895-EP&fileType=pdf
footprint DW20_N (SOIC, 20-Leads, Body 12.8x7.5mm, Pitch 1.27mm, IPC Medium Density)
footprint DW20_L (SOIC, 20-Leads, Body 12.8x7.5mm, Pitch 1.27mm, IPC High Density)
footprint DW20_M (SOIC, 20-Leads, Body 12.8x7.5mm, Pitch 1.27mm, IPC Low Density)
pins: 1 EAN (in) "Error amplifier negative. Inverting input to the error amplifier. Keep below 3.6 V for proper operation.", 2 EAOUT (out) "Error amplifier output. EAOUT also is connected internally to the noninverting input of the PWM comparator and the no-load comparator. EAOUT is internally clamped to the soft-start voltage. The no-load comparator shuts down (See Datasheet)", 3 RAMP (in) "Inverting input of PWM comparator. RAMP receives either the CT waveform in voltage and average current-mode RAMP controls, or the current signal (plus slope compensation) in peak current-mode control. An internal discharge (See Datasheet)", 4 REF (out) "5 V +/- 1.2% voltage reference. REF supplies power to internal circuitry, and also can supply up to 5 mA to external loads. The reference is shut down during undervoltage lockout, but is operational during all other disable (See Datasheet)", 5 GND (power) "Ground. Chip ground for all circuits except the output stages.", 6 SYNC (io) "Synchronization (see Figure 3). SYNC is bidirectional. When used as an output, SYNC can be used as a clock, which is the same as the chip’s internal clock. When used as an input, SYNC overrides the chip’s internal oscillator (See Datasheet)", 7 CT "Oscillator timing capacitor (see Figure 3). The UCC2895-EP oscillator charges CT via a programmed current. The waveform on CT is a sawtooth, with a peak voltage of 2.35 V. The approximate oscillator period is calculated by: (See Datasheet)", 8 RT "Oscillator timing resistor (see Figure 3). The oscillator in the UCC2895-EP operates by charging an external timing capacitor, CT, with a fixed current programmed by RT. RT current is calculated as: RT can range from 40 k (See Datasheet)", 9 DELAB (in) "Delay programming between complementary outputs. DELAB programs the dead time between switching of OUTA and OUTB, and DELCD programs the dead time between OUTC and OUTD. This delay is introduced between complementary outputs (See Datasheet)", 10 DELCD (in) "Delay programming between complementary outputs. DELAB programs the dead time between switching of OUTA and OUTB, and DELCD programs the dead time between OUTC and OUTD. This delay is introduced between complementary outputs (See Datasheet)", 11 ADS (in) "Adaptive delay set.This function sets the ratio between the maximum and minimum programmed output delay dead time. When ADS is connected directly to CS, no delay modulation occurs. Maximum delay modulation occurs when ADS is (See Datasheet)", 12 CS (in) "Current sense. CS is the inverting input of the current-sense comparator, and the noninverting input of the overcurrent comparator and the ADS amplifier. The CS signal is used for cycle-by-cycle current limiting in peak (See Datasheet)", 13 OUTD (out) "Output. These outputs are 100-mA complementary MOS drivers and are optimized to drive FET driver circuits. OUTA and OUTB are fully complementary (assuming no programmed delay). They operate near 50% duty cycle and one-half (See Datasheet)", 14 OUTC (out) "Output. These outputs are 100-mA complementary MOS drivers and are optimized to drive FET driver circuits. OUTA and OUTB are fully complementary (assuming no programmed delay). They operate near 50% duty cycle and one-half (See Datasheet)", 15 VDD (power) "Power supply. VDD must be bypassed with a minimum of a 1.0-uF low ESR, low ESL capacitor to ground.", 16 PGND (power) "?Output stage ground. To keep output switching noise from critical analog circuits, the UCC2895-EP has two different ground connections. PGND is the ground connection for the high-current output stages. Both GND and PGND (See Datasheet)", 17 OUTB (out) "Output. These outputs are 100-mA complementary MOS drivers and are optimized to drive FET driver circuits. OUTA and OUTB are fully complementary (assuming no programmed delay). They operate near 50% duty cycle and one-half (See Datasheet)", 18 OUTA (out) "?Oscillator timing resistor (see Figure 3). The oscillator in the UCC2895-EP operates by charging an external timing capacitor, CT, with a fixed current programmed by RT. RT current is calculated as: RT can range from 40 k (See Datasheet)", 19 SS/DISB (in) "Soft start/disable. SS/DISB combines two independent functions: Disable mode. A rapid shutdown of the chip is accomplished by any one of the following: externally forcing SS/DISB below 0.5 V, externally forcing REF below 4 (See Datasheet)", 20 EAP (in) "Error amplifier positive. Noninverting input to the error amplifier. Keep below 3.6 V for proper operation."